# Altium footprint library displayLCD.PcbLib: 6 footprints
Each footprint in its own frame and in the unit in brackets; x right, y up, seen from the top. Pads: shape width x height; smd on the part's side, far side on the other; paste and mask are expansions set on the pad; w line width, h text height; cw(c..) or ccw(c..) is an arc to the next point about the centre after c.
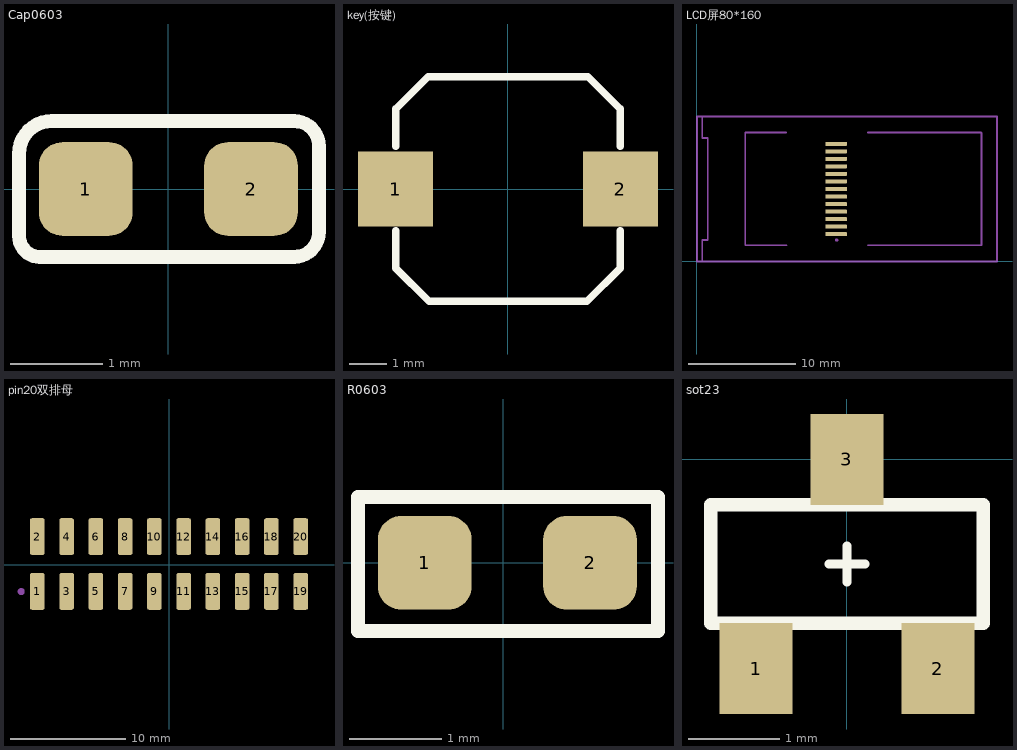
[diagram p0: the footprints below, top view; thin cyan lines are the x and y axes]

## Cap0603 [mil]
pads (2):
  rrect50% 40x40 smd: 1(-35.25,0) 2(35.25,0)
Top Overlay:
  lines w5.91: -63.75,-20.03 ccw(c-54.78,-20.03) -54.78,-29 53.58,-29 ccw(c53.58,-18.33) 64.25,-18.33 64.25,18.33 ccw(c53.58,18.33) 53.58,29 -49.75,29 ccw(c-49.75,15) -63.75,15 -63.75,-20.03
3D body "C0603.STEP": height 31.1, standoff 0, extent -39.19,-15.25 39.56,15.75

## key(按键) [mm]
pads (2):
  rect 2x2 smd: 1(-3,0) 2(3,0)
Top Overlay:
  lines w0.2: -2.997,-1.118 -2.997,-2.108 -2.105,-3 -2,-3 0,-3 2,-3 2.105,-3 2.997,-2.108 2.997,-1.118 ; -2.997,1.143 -2.997,2.134 -2.131,3 -2,3 0,3 2,3 2.131,3 2.997,2.134 2.997,1.143
3D body "静音按键.SLDPRT": height 5, standoff 0, extent -3.125,-3 3.175,3

## LCD屏80*160 [mm]
pads (13):
  rrect25% 2x0.35 smd: 1(12.96,2.55) 2(12.96,3.25) 3(12.96,3.95) 4(12.96,4.65) 5(12.96,5.35) 6(12.96,6.05) 7(12.96,6.75) 8(12.96,7.45) 9(12.96,8.15) 10(12.96,8.85) 11(12.96,9.55) 12(12.96,10.25) 13(12.96,10.95)
Mechanical 7:
  circle w0.152: c13.01,1.992 r0.076
  lines w0.152: 8.306,12.014 4.496,12.014 4.496,1.499 8.331,1.499 ; 15.926,1.499 26.492,1.499 ; 15.926,12.014 26.467,12.014 ; 26.5,1.5 26.5,12 ; 27.305,0 27.94,0 27.94,13.5 0.5,13.5 ; 27.873,0 0.5,0 ; 0.5,0 0.5,2 1,2 1,11.5 0.5,11.5 0.5,13.5 ; 0.5,0 0,0 0,13.5 0.5,13.5
  text "13" at 14.232,11.684 h0.69
  text "1" at 14.232,2.321 h0.69
Top 3D Body:
  lines w0.152: 4.5,1.5 4.5,12
3D body "0.96 - IPS LCD - No Glass -No Cable.stp": height 1.87, standoff 0.5, extent -0.013,-0.013 27.953,13.475

## pin20双排母 [mm]
pads (20):
  rrect25% 1.27x3.18 smd mask+0: 1(-11.43,-2.298) 2(-11.43,2.464) 3(-8.89,-2.298) 4(-8.89,2.464) 5(-6.35,-2.298) 6(-6.35,2.464) 7(-3.81,-2.298) 8(-3.81,2.464) 9(-1.27,-2.298) 10(-1.27,2.464) 11(1.27,-2.298) 12(1.27,2.464) 13(3.81,-2.298) 14(3.81,2.464) 15(6.35,-2.298) 16(6.35,2.464) 17(8.89,-2.298) 18(8.89,2.464) 19(11.43,-2.298) 20(11.43,2.464)
Top Paste:
  region: 10.795,0.874 10.795,4.054 12.065,4.054 12.065,0.874
  region: 10.795,-3.888 10.795,-0.708 12.065,-0.708 12.065,-3.888
  region: 8.255,0.874 8.255,4.054 9.525,4.054 9.525,0.874
  region: 8.255,-3.888 8.255,-0.708 9.525,-0.708 9.525,-3.888
  region: 5.715,0.874 5.715,4.054 6.985,4.054 6.985,0.874
  region: 5.715,-3.888 5.715,-0.708 6.985,-0.708 6.985,-3.888
  region: 3.175,0.874 3.175,4.054 4.445,4.054 4.445,0.874
  region: 3.175,-3.888 3.175,-0.708 4.445,-0.708 4.445,-3.888
  region: 0.635,0.874 0.635,4.054 1.905,4.054 1.905,0.874
  region: 0.635,-3.888 0.635,-0.708 1.905,-0.708 1.905,-3.888
  region: -1.905,0.874 -1.905,4.054 -0.635,4.054 -0.635,0.874
  region: -1.905,-3.888 -1.905,-0.708 -0.635,-0.708 -0.635,-3.888
  region: -4.445,0.874 -4.445,4.054 -3.175,4.054 -3.175,0.874
  region: -4.445,-3.888 -4.445,-0.708 -3.175,-0.708 -3.175,-3.888
  region: -6.985,0.874 -6.985,4.054 -5.715,4.054 -5.715,0.874
  region: -6.985,-3.888 -6.985,-0.708 -5.715,-0.708 -5.715,-3.888
  region: -9.525,0.874 -9.525,4.054 -8.255,4.054 -8.255,0.874
  region: -9.525,-3.888 -9.525,-0.708 -8.255,-0.708 -8.255,-3.888
  region: -12.065,0.874 -12.065,4.054 -10.795,4.054 -10.795,0.874
  region: -12.065,-3.888 -12.065,-0.708 -10.795,-0.708 -10.795,-3.888
Top Solder:
  region: 10.744,0.823 10.744,4.105 12.116,4.105 12.116,0.823
  region: 10.744,-3.94 10.744,-0.658 12.116,-0.658 12.116,-3.94
  region: 8.204,0.823 8.204,4.105 9.576,4.105 9.576,0.823
  region: 8.204,-3.94 8.204,-0.658 9.576,-0.658 9.576,-3.94
  region: 5.664,0.823 5.664,4.105 7.036,4.105 7.036,0.823
  region: 5.664,-3.94 5.664,-0.658 7.036,-0.658 7.036,-3.94
  region: 3.124,0.823 3.124,4.105 4.496,4.105 4.496,0.823
  region: 3.124,-3.94 3.124,-0.658 4.496,-0.658 4.496,-3.94
  region: 0.584,0.823 0.584,4.105 1.956,4.105 1.956,0.823
  region: 0.584,-3.94 0.584,-0.658 1.956,-0.658 1.956,-3.94
  region: -1.956,0.823 -1.956,4.105 -0.584,4.105 -0.584,0.823
  region: -1.956,-3.94 -1.956,-0.658 -0.584,-0.658 -0.584,-3.94
  region: -4.496,0.823 -4.496,4.105 -3.124,4.105 -3.124,0.823
  region: -4.496,-3.94 -4.496,-0.658 -3.124,-0.658 -3.124,-3.94
  region: -7.036,0.823 -7.036,4.105 -5.664,4.105 -5.664,0.823
  region: -7.036,-3.94 -7.036,-0.658 -5.664,-0.658 -5.664,-3.94
  region: -9.576,0.823 -9.576,4.105 -8.204,4.105 -8.204,0.823
  region: -9.576,-3.94 -9.576,-0.658 -8.204,-0.658 -8.204,-3.94
  region: -12.116,0.823 -12.116,4.105 -10.744,4.105 -10.744,0.823
  region: -12.116,-3.94 -12.116,-0.658 -10.744,-0.658 -10.744,-3.94
Mechanical 8:
  circle w0.305: c-12.827,-2.311 r0.152

## R0603 [mil]
pads (2):
  rrect50% 40x40 smd: 1(-33.5,0) 2(37,0)
Top Overlay:
  lines w6: -62,-29 66,-29 66,28 -62,28 -62,-29
3D body "R0603.STEP": height 31.1, standoff 0, extent -37.82,-15.24 40.93,15.76

## sot23 [mm]
pads (3):
  rect 0.8x1 smd: 1(-1,-2.3) 2(1,-2.3) 3(0,0)
Top Overlay:
  lines w0.1: -0.2,-1.15 0.2,-1.15 ; 0,-1.35 0,-0.95 0,-1.25
  lines w0.15: -1.5,-1.8 1.5,-1.8 1.5,-0.5 -1.5,-0.5 -1.5,-1.8
3D body "E13DF50E6388E4875B4295DCC5C2F603.stp": height 1.01, standoff -0.03, extent -1.524,-2.463 1.516,0.177